# EAGLE library part MIC4680-3.3YM (library pro3E)
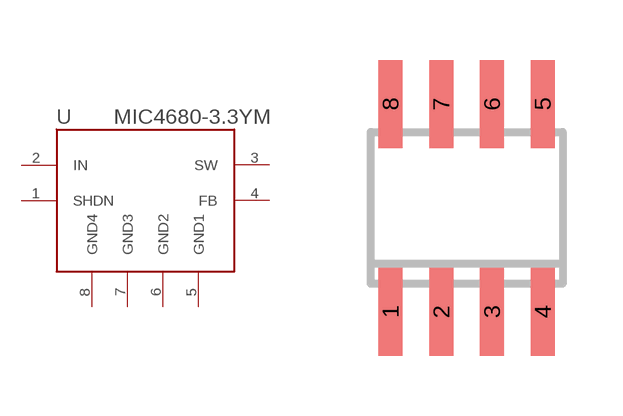
[diagram p6: symbol with the pads of SOIC8; footprint SOIC8]

Designator prefix -

## MIC4680-3.3YM (MF: MICROCHIP; MPN: MIC4680-3.3YM; OC_FARNELL: 2510172; OC_NEWARK: MIC4680-3.3YM)  [SOIC8]
1  SHDN
2  IN
3  SW
4  FB
5  GND1
6  GND2
7  GND3
8  GND4

## Footprint SOIC8 (pad centres in mm)
Small Outline IC
smd 0.6 x 2.2: 1 -1.905,-2.6; 2 -0.635,-2.6; 3 0.635,-2.6; 4 1.905,-2.6; 5 1.905,2.6; 6 0.635,2.6; 7 -0.635,2.6; 8 -1.905,2.6